# EAGLE library part 418127160908 (library Wurth_Elektronik_Electromechanic_Switch_rev15d)
WS-IC-2.54 mm small compact THT Dip Switch with top tape, 16 pins, 8 poles SPECIFICATION Contact Rating Switching : 25mA, 24VDC Non-Switching : 100mA, 50VDC Contact Resistance Initial: 50mΩ max. After life test : 100mΩ max. Insulation Resistance : min. 100MΩ at 500VDC Dielectric Strength : 500VAC for 1 minute Operation Force : 600g max. Mechanical Life : 2000 cycles Electrical Life : 2000 cycles / 25mA, 24VDC Flat Actuator with top tape sealed <http://katalog.we-online.de/media/thumbs2/eican/thb_WS_IC_4181271609xx_pf2.jpg> Details see: http://katalog.we-online.de/en/em/418_127_160_9xx Created on 2015-06-24 2015 (C) Wurth Elektronik
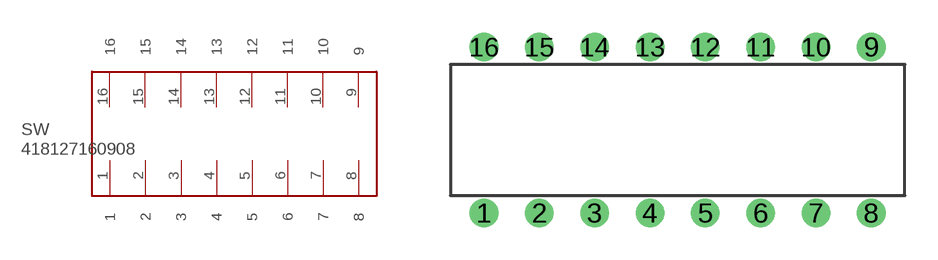
[diagram p54: symbol with the pads of 418127160908; footprint 418127160908]

Designator prefix SW

## 418127160908  [418127160908]
1  1
2  2
3  3
4  4
5  5
6  6
7  7
8  8
9  9
10  10
11  11
12  12
13  13
14  14
15  15
16  16

## Footprint 418127160908 (pad centres in mm)
WS-IC-2.54 mm small compact THT Dip Switch with top tape,16 pins,8 poles
drill 0.8: 1 -8.89,-3.81; 2 -6.35,-3.81; 3 -3.81,-3.81; 4 -1.27,-3.81; 5 1.27,-3.81; 6 3.81,-3.81; 7 6.35,-3.81; 8 8.89,-3.81; 9 8.89,3.81; 10 6.35,3.81; 11 3.81,3.81; 12 1.27,3.81; 13 -1.27,3.81; 14 -3.81,3.81; 15 -6.35,3.81; 16 -8.89,3.81